# Altium schematic symbol library transistor_bjt.SchLib: 110 symbols
Pins are listed as number, name and electrical type; pins without a type are passive.

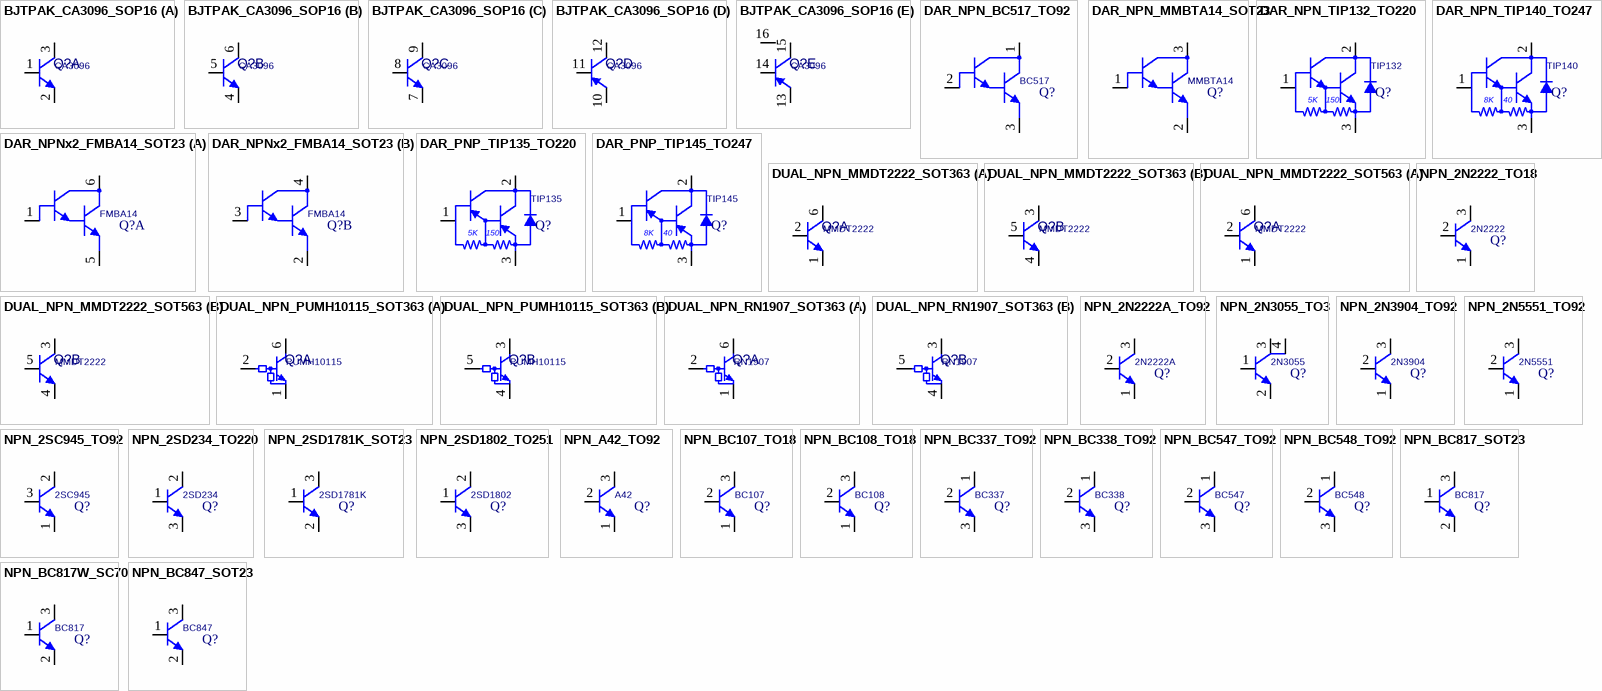
[diagram p0: symbols BJTPAK_CA3096_SOP16 to NPN_BC847_SOT23]

## BJTPAK_CA3096_SOP16
designator Q?, comment CA3096
BJT, NPNx3/PNPx2, 35v, 0.01~0.05A, SMD, SOP-16; MANF: Renesas / Intersil; PARAM: NPN50mA/PNP-10mA; DESC: DESCRIPTION; MANF_P#: CA3096AM, CA3096M; PARAM2: NPN35/PNP-40V; ASSEMBLY: ASSEMBLY; PRICE: PRICE; VALUE: CA3096
footprint SO_16 (SOP, SOIC, 3.9mm width, 1.27mm pitch,)
part A pins: 1 B1`, 2 E1, 3 C1
part B pins: 4 E2, 5 B2, 6 C2
part C pins: 7 E3, 8 B3, 9 C3
part D pins: 10 E4, 11 B4, 12 C4
part E pins: 13 E5, 14 B5, 15 C5, 16

## DAR_NPN_BC517_TO92
designator Q?, comment BC517
BJT, DARLINGTON, NPN, 30v, 1A, TO92,; PARAM: 30v, 1A, hFE30000, -55~150oC; PARAM2: 0.6W, max200MHz; MANF: ON/Fairchild; DESC: complementary to BC516; MANF_P#: BC517; PRICE: 0.5$; VALUE: BC517
footprint TO92_3 (TO-92)
pins: 1 C, 2 B, 3 E

## DAR_NPN_MMBTA14_SOT23
designator Q?, comment MMBTA14
BJT, DARLINGTON, NPN, 30v, 1.2A, SOT23; PARAM: 30v, 1.2A, hFE20000, -55~150oC; PARAM2: 0.6W, max125MHz; MANF: ON/Fairchild; DESC: complementary to BC516; MANF_P#: MMBTA14; PRICE: 0.3$; VALUE: MMBTA14
footprint SOT23_3 (SOT-23, Micro3, MO-178, TO-236AB, MO-193C, SuperSOT3, SC-59, 1.9mm pitch 3X1.5mm body)
pins: 1 B, 2 E, 3 C

## DAR_NPN_TIP132_TO220
designator Q?, comment TIP132
BJT, DARLINGTON, NPN, 100v, 8A, THD, TO-220, complementary the TIP135, TIP137; PARAM2: 70W; MANF: ST; PARAM: 100v, 8A; MANF_P#: TIP132; VALUE: TIP132
footprint TO220_3 (TO-220 3 LEAD, TO-262, pitch: 2.54mm  10x4.5mm)
simulation model NS3904
pins: 1 B, 2 C, 3 E
text: 5K; 150

## DAR_NPN_TIP140_TO247
designator Q?, comment TIP140
BJT, DARLINGTON, NPN, 100v, 10A, THD, TO-247, complementary the TIP145, TIP146, TIP147; PARAM: 60-100v, 10A, hfe1000; PARAM2: 125W; MANF_P#: TIP140, TIP141, TIP142; MANF: ON; VALUE: TIP140
footprint TO247_3 (TO247, TO-247, TO-3P pitch: 5.5mm 16x5mm)
simulation model NS3904
pins: 1 B, 2 C, 3 E
text: 8K; 40

## DAR_NPNx2_FMBA14_SOT23
designator Q?, comment FMBA14
BJT, DARLINGTON, NPN, DUAL, 30v, 1.2A, SOT-23-6; PARAM: 30v, 1.2A, hFE20000, -55~150oC; PARAM2: 0.7W, max125MHz; MANF: ON/Fairchild; DESC: complementary to BC516; MANF_P#: FMBA14; PRICE: 0.45$; VALUE: FMBA14
footprint SOT23_6 (SOT-23-6, MICRO6, SOT-26, SOT457, SuperSOT6, TSOP-6, HMC313, MO-178AB, MO-193AA, TSOT)
part A pins: 1 B1, 5 E1, 6 C1
part B pins: 2 E2, 3 B2, 4 C2

## DAR_PNP_TIP135_TO220
designator Q?, comment TIP135
BJT, DARLINGTON, PNP, 100v, 8A, THD, TO-220, complementary the TIP132; PARAM2: 70W; MANF_P#: TIP135, TIP137; MANF: ST; PARAM: 100v, 8A; VALUE: TIP135
footprint TO220_3 (TO-220 3 LEAD, TO-262, pitch: 2.54mm  10x4.5mm)
simulation model NS3904
pins: 1 B, 2 C, 3 E
text: 5K; 150

## DAR_PNP_TIP145_TO247
designator Q?, comment TIP145
BJT, DARLINGTON, PNP, 100v, 10A, THD, TO-247, complementary the TIP140, TIP141, TIP142; PARAM: 60-100v, 10A, hfe1000; PARAM2: 125W; MANF_P#: TIP145, TIP146, TIP147; MANF: ON; VALUE: TIP145
footprint TO247_3 (TO247, TO-247, TO-3P pitch: 5.5mm 16x5mm)
simulation model NS3904
pins: 1 B, 2 C, 3 E
text: 8K; 40

## DUAL_NPN_MMDT2222_SOT363
designator Q?, comment MMDT2222
BJT, DUAL, NPN, 40v, 0.2A, SMD, SOT363; MANF: Diodes; PARAM: 0.6A, hFE100~300; DESC: DESCRIPTION; MANF_P#: MMDT2222A-7; PARAM2: 40V,; ASSEMBLY: ASSEMBLY; PRICE: PRICE; VALUE: MMDT2222
footprint SOT363_6 (SOT-363, SC-70-6, DCK, BFS483, SC-88, MO-203AB, 2X1.2mm)
part A pins: 1 E, 2 B, 6 C
part B pins: 3 C, 4 E, 5 B

## DUAL_NPN_MMDT2222_SOT563
designator Q?, comment MMDT2222
BJT, DUAL, NPN, 40v, 0.2A, SMD, SOT563; MANF: Diodes; PARAM: 0.6A, hFE100~300; DESC: DESCRIPTION; MANF_P#: MMDT2222V-7; PARAM2: 40V,; ASSEMBLY: ASSEMBLY; PRICE: PRICE; VALUE: MMDT2222
footprint SOT563_6 (SOT-563, 6 LEAD, Body 1.2x1.6mm, Pitch 0.50mm, DSO50_6_160X120)
part A pins: 1 E, 2 B, 6 C
part B pins: 3 C, 4 E, 5 B

## DUAL_NPN_PUMH10115_SOT363
designator Q?, comment PUMH10115
BJT, DUAL, NPN, pre-biased, 50V, 0.1A, SOT363 SMD; MANF: NXP; PARAM: 50V; 0.1A, 300mW;; DESC: DESCRIPTION; PARAM2: Rb=2.2K, Re=47K; ASSEMBLY: ASSEMBLY; PRICE: PRICE; MANF_P#: PUMH10115; VALUE: PUMH10115
footprint SOT363_6 (SOT-363, SC-70_6, BFS483, SC-88, MO-203AB, DSO65_6_200X130)
part A pins: 1 E, 2 B, 6 C
part B pins: 3 C, 4 E, 5 B

## DUAL_NPN_RN1907_SOT363
designator Q?, comment RN1907
BJT, DUAL, NPN, pre-biased, 50V, 0.1A, SOT363 SMD; MANF: Toshiba; PARAM: 50V; 0.1A, 200mW;; DESC: DESCRIPTION; PARAM2: Rb=10K, Re=47K; ASSEMBLY: ASSEMBLY; PRICE: PRICE; MANF_P#: RN1907; VALUE: RN1907
footprint SOT363_6 (SOT-363, SC-70_6, BFS483, SC-88, MO-203AB, DSO65_6_200X130)
part A pins: 1 E, 2 B, 6 C
part B pins: 3 C, 4 E, 5 B

## NPN_2N2222_TO18
designator Q?, comment 2N2222
BJT, NPN, 30v, 0.8A, THD, TO-18; PARAM: 0.8A, hFE100~300; PARAM2: 30v, 500mW; MANF: ON; MANF_P#: 2N2222; VALUE: 2N2222
footprint TO18_3 (TO18, TO-206AA, TO52, TO46, DIA: 5.5mm)
simulation model NS3904
pins: 1 E, 2 B, 3 C

## NPN_2N2222A_TO92
designator Q?, comment 2N2222A
BJT, NPN, 40v, 0.6A, THD, TO92; PARAM: 0.6A, hFE100~300; PARAM2: 40v, 625mW; MANF: DIOTEC; MANF_P#: 2N2222A; VALUE: 2N2222A
footprint TO92_3 (TO-92)
simulation model NS3904
pins: 1 E, 2 B, 3 C

## NPN_2N3055_TO3
designator Q?, comment 2N3055
BJT, NPN, 60v, 15A, THD, TO-3; PARAM2: 115W; MANF: ON; PARAM: 60v, 15A; MANF_P#: 2N3055; VALUE: 2N3055
footprint TO3 (TO-3, TO3, TO-204A, 2N3055)
simulation model NS3904
pins: 1 B, 2 E, 3 C, 4 C

## NPN_2N3904_TO92
designator Q?, comment 2N3904
BJT, NPN, 40v, 0.6A, THD, TO92; PARAM: 40v, 0.2A; PARAM2: 625mW; MANF: ST; MANF_P#: 2N3904; VALUE: 2N3904
footprint TO92_3 (TO-92)
simulation model NS3904
pins: 1 E, 2 B, 3 C

## NPN_2N5551_TO92
designator Q?, comment 2N5551
BJT, NPN, 160v, 0.6A, THD, TO92; PARAM2: 625mW; MANF: ON; PARAM: 160v, 0.6A; MANF_P#: 2N5551; VALUE: 2N5551
footprint TO92_3 (TO-92)
simulation model NS3904
pins: 1 E, 2 B, 3 C

## NPN_2SC945_TO92
designator Q?, comment 2SC945
BJT, NPN, 50v, 0.15A, THD, TO92, BC945, Complimentary to 2SA733; PARAM2: 250mW; MANF_P#: 2SC945, BC945; PARAM: 50v, 0.15A; MANF: -; VALUE: 2SC945
footprint TO92_3 (TO-92)
simulation model NS3904
pins: 1 E, 2 C, 3 B

## NPN_2SD234_TO220
designator Q?, comment 2SD234
BJT, NPN, 60v, 3A, THD, TO-220; PARAM: 60v, 3A; PARAM2: 25W; MANF: ON; MANF_P#: 2SD234; VALUE: 2SD234
footprint TO220_3 (TO-220 3 LEAD, TO-262, pitch: 2.54mm  10x4.5mm)
simulation model NS3904
pins: 1 B, 2 C, 3 E

## NPN_2SD1781K_SOT23
designator Q?, comment 2SD1781K
BJT, NPN, 32v, 0.8A, SMD, SOT23, Complements the 2SB1197K; PARAM2: 200mW; MANF: ROHM; PARAM: 32v, 0.8A; MANF_P#: 2SD1781K; VALUE: 2SD1781K
footprint SOT23_3 (SOT-23, Micro3, MO-178, TO-236AB, MO-193C, SuperSOT3, SC-59, DSO190_3_300X150)
simulation model NS3904
pins: 1 B, 2 E, 3 C

## NPN_2SD1802_TO251
designator Q?, comment 2SD1802
BJT, NPN, 50v, 3A, THD, TO-251, Complements the 2SB1202; PARAM: 50v, 3A; MANF_P#: 2SD1802T; MANF: ON; PARAM2: -; VALUE: 2SD1802
footprint TO251_3 (TO-251 IPAK pitch: 2.3mm 6.5x6.5mm)
simulation model NS3904
pins: 1 B, 2 C, 3 E

## NPN_A42_TO92
designator Q?, comment A42
BJT, NPN, 300v, 0.5A, THD, TO92; PARAM2: 625mW; MANF: KOO CHIN; PARAM: 300v, 0.5A; MANF_P#: A42; VALUE: A42
footprint TO92_3 (TO-92)
simulation model NS3904
pins: 1 E, 2 B, 3 C

## NPN_BC107_TO18
designator Q?, comment BC107
BJT, NPN, 45v, 0.2A, THD, TO-18; PARAM2: 600mW; MANF: ON; PARAM: 45v, 0.2A; MANF_P#: BC107; VALUE: BC107
footprint TO18_3 (TO18, TO-206AA, TO52, TO46, DIA: 5.5mm)
simulation model NS3904
pins: 1 E, 2 B, 3 C

## NPN_BC108_TO18
designator Q?, comment BC108
BJT, NPN, 25v, 0.2A, THD, TO-18; PARAM2: 600mW; MANF: ON; PARAM: 25v, 0.2A; MANF_P#: BC108; VALUE: BC108
footprint TO18_3 (TO18, TO-206AA, TO52, TO46, DIA: 5.5mm)
simulation model NS3904
pins: 1 E, 2 B, 3 C

## NPN_BC337_TO92
designator Q?, comment BC337
BJT, NPN, 45v, 0.8A, THD, TO92; PARAM2: 625mW; MANF: FAIRCHILD; PARAM: 45v, 0.8A; MANF_P#: BC337; VALUE: BC337
footprint TO92_3 (TO-92)
simulation model NS3904
pins: 1 C, 2 B, 3 E

## NPN_BC338_TO92
designator Q?, comment BC338
BJT, NPN, 25v, 0.8A, THD, TO92; PARAM2: 625mW; MANF: FAIRCHILD; PARAM: 25v, 0.8A; MANF_P#: BC338; VALUE: BC338
footprint TO92_3 (TO-92)
simulation model NS3904
pins: 1 C, 2 B, 3 E

## NPN_BC547_TO92
designator Q?, comment BC547
BJT, NPN, 45v, 0.1A, THD, TO92; PARAM: 0.1A, Hfe110~800; PARAM2: 45v, 500mW; MANF: FAIRCHILD; MANF_P#: BC547; VALUE: BC547
footprint TO92_3 (TO-92)
simulation model NS3904
pins: 1 C, 2 B, 3 E

## NPN_BC548_TO92
designator Q?, comment BC548
BJT, NPN, 30v, 0.1A, THD, TO92; PARAM2: 500mW; MANF: FAIRCHILD; PARAM: 30v, 0.1A; MANF_P#: BC548; VALUE: BC548
footprint TO92_3 (TO-92)
simulation model NS3904
pins: 1 C, 2 B, 3 E

## NPN_BC817_SOT23
designator Q?, comment BC817
BJT, NPN, 45v, 0.5A, SMD, SOT23; PARAM: 0.5A, Hfe100~600; PARAM2: 45v, 250mW; MANF: NXP, ON; MANF_P#: BC817; VALUE: BC817
footprint SOT23_3 (SOT-23, Micro3, MO-178, TO-236AB, MO-193C, SuperSOT3, SC-59, DSO190_3_300X150)
simulation model NS3904
pins: 1 B, 2 E, 3 C

## NPN_BC817W_SC70
designator Q?, comment BC817
BJT, NPN, 45v, 0.5A, SMD, SC70; PARAM: 0.5A, Hfe100~600; PARAM2: 45v, 250mW; MANF_P#: BC817W, BC817-40W; MANF: NXP, ON; VALUE: BC817
footprint SOT323_3 (SOT323, SC-70/SC70-3L, MO-203(JEDEC))
simulation model NS3904
pins: 1 B, 2 E, 3 C

## NPN_BC847_SOT23
designator Q?, comment BC847
BJT, NPN, 45v, 0.1A, SOT23; PARAM: 0.1A, Hfe110~800; PARAM2: 45v, 500mW; MANF_P#: BC847BLT; MANF: NXP, ON; VALUE: BC847
footprint SOT23_3 (SOT-23, Micro3, MO-178, TO-236AB, MO-193C, SuperSOT3, SC-59, 1.9mm pitch 3X1.5mm body)
simulation model NS3904
pins: 1 B, 2 E, 3 C

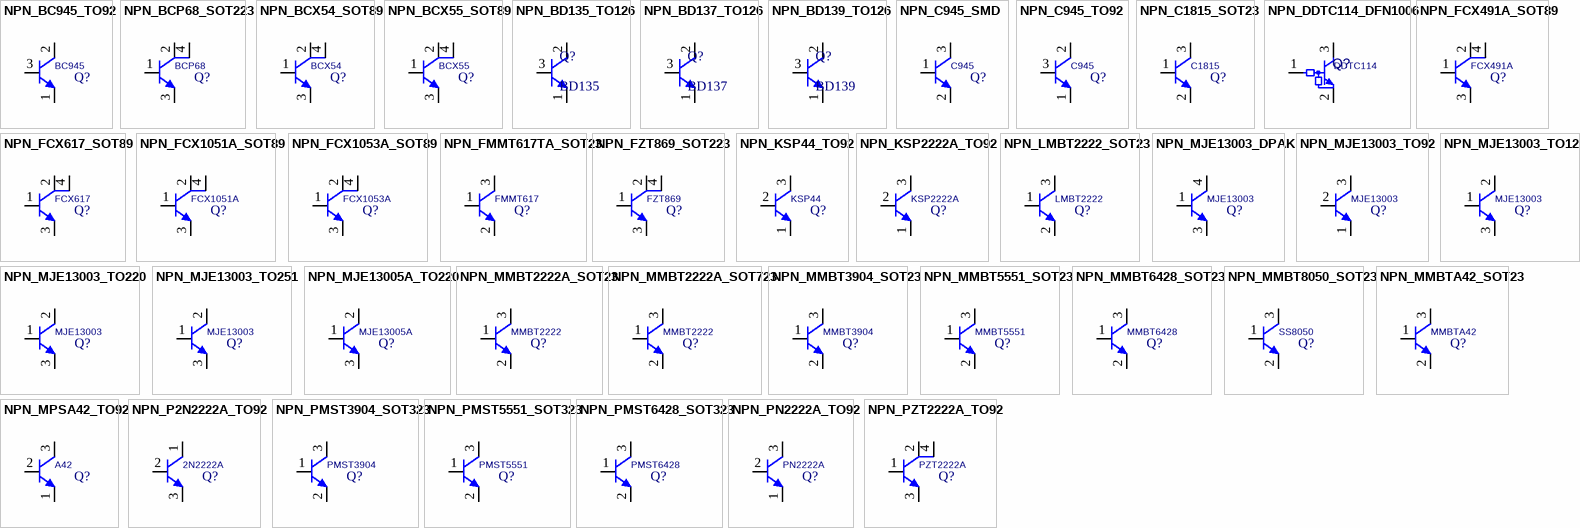
[diagram p1: symbols NPN_BC945_TO92 to NPN_PZT2222A_TO92]

## NPN_BC945_TO92
designator Q?, comment BC945
BJT, NPN, 50v, 0.15A, THD, TO92, BC945; PARAM2: 250mW; MANF_P#: 2SC945, BC945; PARAM: 50v, 0.15A; MANF: -; VALUE: BC945
footprint TO92_3 (TO-92)
simulation model NS3904
pins: 1 E, 2 C, 3 B

## NPN_BCP68_SOT223
designator Q?, comment BCP68
BJT, NPN, MED POWER, 20v, 1A, SMD, SOT223; PARAM: 20v, 1A; MANF: NXP, ON; PARAM2: -; MANF_P#: BCP68; VALUE: BCP68
footprint SOT223_4 (SOT223, 4-Leads, Body 6.5x3.5mm, Pitch 2.30mm)
simulation model NS3904
pins: 1 B, 2 C, 3 E, 4 C2

## NPN_BCX54_SOT89
designator Q?, comment BCX54
BJT, NPN, MED POWER, 45v, 1A, SMD, SOT89; PARAM: 45v, 1A; MANF: NXP, ON; PARAM2: -; MANF_P#: BCX54; VALUE: BCX54
footprint SOT89_3 (SOT89, SOT-89, SBF-4089, SOT89A, GALI, SC-62, DF782, TO-243AA(JEDEC))
simulation model NS3904
pins: 1 B, 2 C, 3 E, 4 C2

## NPN_BCX55_SOT89
designator Q?, comment BCX55
BJT, NPN, 60v, 1A, 1W, 150MHz, SOT-89; PARAM: 60v, 1A, 150MHz; PARAM2: 1W, -65~150oC; MANF_P#: BCX55-10, BCX5510TA; MANF: DIODES,; DESC: marking BG; PRICE: 0.5$; VALUE: BCX55
footprint SOT89_3 (SOT89, SOT-89, SBF-4089, SOT89A, GALI, SC-62, DF782, TO-243AA(JEDEC))
pins: 1 B, 2 C, 3 E, 4 C

## NPN_BD135_TO126
designator Q?, comment BD135
BJT, NPN, 45V, 1.5A; MANF: FAIRCHILD; VALUE: BD135; MANF_P#: BD135
footprint TO126_3 (TO126, TO-126, SOT32 (PHIPLIPS), pitch: 2.3mm, 8X3mm)
pins: 1 E, 2 C, 3 B

## NPN_BD137_TO126
designator Q?, comment BD137
BJT, NPN, 60V, 1.5A; MANF: FAIRCHILD; VALUE: BD137; MANF_P#: BD137
footprint TO126_3 (TO126, TO-126, SOT32 (PHIPLIPS), pitch: 2.3mm, 8X3mm)
pins: 1 E, 2 C, 3 B

## NPN_BD139_TO126
designator Q?, comment BD139
BJT, NPN, 80V, 1.5A; MANF: FAIRCHILD; VALUE: BD139; MANF_P#: BD139
footprint TO126_3 (TO126, TO-126, SOT32 (PHIPLIPS), pitch: 2.3mm, 8X3mm)
pins: 1 E, 2 C, 3 B

## NPN_C945_SMD
designator Q?, comment C945
BJT, NPN, 50v, 0.15A, THD, TO92, BC945; PARAM2: 200mW; MANF_P#: C945, 2SC945, BC945; PARAM: 50v, 0.15A; MANF: -; VALUE: C945
footprint SOT23_3 (SOT-23, Micro3, MO-178, TO-236AB, MO-193C, SuperSOT3, SC-59, DSO190_3_300X150)
simulation model NS3904
pins: 1 B, 2 E, 3 C

## NPN_C945_TO92
designator Q?, comment C945
BJT, NPN, 50v, 0.15A, THD, TO92, BC945; PARAM2: 250mW; MANF_P#: C945, 2SC945, BC945; PARAM: 50v, 0.15A; MANF: -; VALUE: C945
footprint TO92_3 (TO-92)
simulation model NS3904
pins: 1 E, 2 C, 3 B

## NPN_C1815_SOT23
designator Q?, comment C1815
BJT, NPN, 50v, 0.15A, SMD, SOT23; PARAM2: 250mW; PARAM: 50v, 0.15A; MANF_P#: C1815; MANF: -; VALUE: C1815
footprint SOT23_3 (SOT-23, Micro3, MO-178, TO-236AB, MO-193C, SuperSOT3, SC-59, DSO190_3_300X150)
simulation model NS3904
pins: 1 B, 2 E, 3 C

## NPN_DDTC114_DFN1006
designator Q?, comment DDTC114
BJT, NPN, pre-biased, 50V, 0.07A; MANF: Diodes; PARAM: 50V; 0.07A, 250mW;; DESC: DESCRIPTION; PARAM2: Rb=10K, Re=47K; MANF_P#: DDTC114YLP-7; ASSEMBLY: ASSEMBLY; PRICE: 0.4$; VALUE: DDTC114
footprint DSN1006_3 (X2-DSN1006-3, 1X0.6X0.35mm)
pins: 1 B, 2 E, 3 C

## NPN_FCX491A_SOT89
designator Q?, comment FCX491A
BJT, NPN, MED POWER, 40v, 1A, SMD, SOT89; PARAM: 40v, 1A; MANF: ZETEX; PARAM2: -; MANF_P#: FCX491A; VALUE: FCX491A
footprint SOT89_3 (SOT89, SOT-89, SBF-4089, SOT89A, GALI, SC-62, DF782, TO-243AA(JEDEC))
simulation model NS3904
pins: 1 B, 2 C, 3 E, 4 C2

## NPN_FCX617_SOT89
designator Q?, comment FCX617
BJT, NPN, MED POWER, 15v, 3A, SMD, SOT89; PARAM: 15v, 3A; MANF: ZETEX; PARAM2: -; MANF_P#: FCX617; VALUE: FCX617
footprint SOT89_3 (SOT89, SOT-89, SBF-4089, SOT89A, GALI, SC-62, DF782, TO-243AA(JEDEC))
simulation model NS3904
pins: 1 B, 2 C, 3 E, 4 C2

## NPN_FCX1051A_SOT89
designator Q?, comment FCX1051A
BJT, NPN, MED POWER, 40v, 3A, SMD, SOT89; PARAM: 40v, 3A; MANF: ZETEX; PARAM2: -; MANF_P#: FCX1051A; VALUE: FCX1051A
footprint SOT89_3 (SOT89, SOT-89, SBF-4089, SOT89A, GALI, SC-62, DF782, TO-243AA(JEDEC))
simulation model NS3904
pins: 1 B, 2 C, 3 E, 4 C2

## NPN_FCX1053A_SOT89
designator Q?, comment FCX1053A
BJT, NPN, MED POWER, 75v, 3A, SMD, SOT89; PARAM: 75v, 3A; MANF: ZETEX; PARAM2: -; MANF_P#: FCX1053A; VALUE: FCX1053A
footprint SOT89_3 (SOT89, SOT-89, SBF-4089, SOT89A, GALI, SC-62, DF782, TO-243AA(JEDEC))
simulation model NS3904
pins: 1 B, 2 C, 3 E, 4 C2

## NPN_FMMT617TA_SOT23
designator Q?, comment FMMT617
BJT, NPN, 15V, 3A, SMD, SOT23; PARAM: 15V, 3A; PARAM2: 625mW; MANF_P#: FMMT617TA; MANF: Diodes/Zetex; VALUE: FMMT617
footprint SOT23_3 (SOT-23, Micro3, MO-178, TO-236AB, MO-193C, SuperSOT3, SC-59, DSO190_3_300X150)
simulation model NS3904
pins: 1 B, 2 E, 3 C

## NPN_FZT869_SOT223
designator Q?, comment FZT869
BJT, NPN, MED POWER, 25V, 7A, SMD, SOT223; PARAM: 25V, 7A; PARAM2: 3WATT; MANF: Diodes; MANF_P#: FZT869; VALUE: FZT869
footprint SOT223_4 (SOT223, 4-Leads, Body 6.5x3.5mm, Pitch 2.30mm)
simulation model NS3904
pins: 1 B, 2 C, 3 E, 4 C2

## NPN_KSP44_TO92
designator Q?, comment KSP44
BJT, NPN, 400v, 0.3A, THD, TO92; PARAM2: 625mW; MANF: FAIRCHILD; PARAM: 400v, 0.3A; MANF_P#: KSP44; VALUE: KSP44
footprint TO92_3 (TO-92)
simulation model NS3904
pins: 1 E, 2 B, 3 C

## NPN_KSP2222A_TO92
designator Q?, comment KSP2222A
BJT, NPN, 40v, 0.6A, THD, TO92; PARAM: 0.6A, hFE100~300; PARAM2: 40v, 625mW; MANF: FAIRCHILD; MANF_P#: KSP2222A; VALUE: KSP2222A
footprint TO92_3 (TO-92)
simulation model NS3904
pins: 1 E, 2 B, 3 C

## NPN_LMBT2222_SOT23
designator Q?, comment LMBT2222
BJT, NPN, 40v, 0.6A, SMD, SOT23; PARAM: 0.6A, hFE100~300; PARAM2: 40v, 250mW; MANF_P#: LMBT2222LT1G, LMBT2222ALT1G; MANF: LRC; VALUE: LMBT2222
footprint SOT23_3 (SOT-23, Micro3, MO-178, TO-236AB, MO-193C, SuperSOT3, SC-59, DSO190_3_300X150)
simulation model NS3904
pins: 1 B, 2 E, 3 C

## NPN_MJE13003_DPAK
designator Q?, comment MJE13003
BJT, NPN, SWITCHMODE, 400v, 1.5A, SMD, TO-220; PARAM2: 1.4W; MANF: UTC; PARAM: 400v, 1.5A; MANF_P#: MJE13003; VALUE: MJE13003
footprint DPAK_3 (D-PAK (TO-252), 3-Pads, Body 6.2x6.7mm)
pins: 1 B, 3 E, 4 C

## NPN_MJE13003_TO92
designator Q?, comment MJE13003
BJT, NPN, SWITCHMODE, 400v, 0.5A, THD, TO92; PARAM2: 600mW; MANF: UTC; PARAM: 400v, 0.5A; MANF_P#: MJE13003; VALUE: MJE13003
footprint TO92_3 (TO-92)
pins: 1 E, 2 B, 3 C

## NPN_MJE13003_TO126
designator Q?, comment MJE13003
BJT, NPN, SWITCHMODE, 400v, 1.5A, THD, TO-126; PARAM2: 1.4W; MANF: ON, UTC; PARAM: 400v, 1.5A; MANF_P#: MJE13003; VALUE: MJE13003
footprint TO126_3 (TO126, TO-126, SOT32 (PHIPLIPS), pitch: 2.3mm, 8X3mm)
simulation model NS3904
pins: 1 B, 2 C, 3 E

## NPN_MJE13003_TO220
designator Q?, comment MJE13003
BJT, NPN, SWITCHMODE, 400v, 1.5A, THD, TO-220; PARAM2: 1.4W; MANF: UTC; PARAM: 400v, 1.5A; MANF_P#: MJE13003; VALUE: MJE13003
footprint TO220_3 (TO-220 3 LEAD, TO-262, pitch: 2.54mm  10x4.5mm)
simulation model NS3904
pins: 1 B, 2 C, 3 E

## NPN_MJE13003_TO251
designator Q?, comment MJE13003
BJT, NPN, SWITCHMODE, 400v, 1.5A, THD, TO-220; PARAM2: 1.4W; MANF: UTC; PARAM: 400v, 1.5A; MANF_P#: MJE13003; VALUE: MJE13003
footprint TO251_3 (TO-251 IPAK pitch: 2.3mm 6.5x6.5mm)
simulation model NS3904
pins: 1 B, 2 C, 3 E

## NPN_MJE13005A_TO220
designator Q?, comment MJE13005A
BJT, NPN, 400v, 4A, THD, TO-220; PARAM2: 75W; PARAM: 400v, 4A; MANF_P#: MJE13005A; MANF: -; VALUE: MJE13005A
footprint TO220_3 (TO-220 3 LEAD, TO-262, pitch: 2.54mm  10x4.5mm)
simulation model NS3904
pins: 1 B, 2 C, 3 E

## NPN_MMBT2222A_SOT23
designator Q?, comment MMBT2222
BJT, NPN, 40v, 0.6A, SMD, SOT23; PARAM: hFE100~300; PARAM2: 0.6A, 40v, 250mW; MANF_P#: MMBT2222A; MANF: Diodes, NXP, FAIRCHILD, ON; VALUE: MMBT2222
footprint SOT23_3 (SOT-23, Micro3, MO-178, TO-236AB, MO-193C, SuperSOT3, SC-59, DSO190_3_300X150)
simulation model NS3904
pins: 1 B, 2 E, 3 C

## NPN_MMBT2222A_SOT723
designator Q?, comment MMBT2222
BJT, NPN, 40v, 0.6A, SMD, SOT723; PARAM: hFE100~300; PARAM2: 0.6A, 40v, 250mW; MANF_P#: MMBT2222AM3T5G; MANF: ON; VALUE: MMBT2222
footprint SOT723_3 (VMT3, SC-105AA, SOT-723, 3 LEAD, Body 1.2x0.8mm, Pitch 0.8mm)
simulation model NS3904
pins: 1 B, 2 E, 3 C

## NPN_MMBT3904_SOT23
designator Q?, comment MMBT3904
BJT, NPN, 40v, 0.2A, SMD, SOT23; PARAM2: 250mW; MANF: Diodes, NXP, FAIRCHILD, ON; PARAM: 40v, 0.2A; MANF_P#: MMBT3904; VALUE: MMBT3904
footprint SOT23_3 (SOT-23, Micro3, MO-178, TO-236AB, MO-193C, SuperSOT3, SC-59, DSO190_3_300X150)
simulation model NS3904
pins: 1 B, 2 E, 3 C

## NPN_MMBT5551_SOT23
designator Q?, comment MMBT5551
BJT, NPN, 160v, 0.6A, SMD, SOT-23; PARAM2: 625mW; MANF: ON/DIODE; PARAM: 160v, 0.6A; MANF_P#: MMBT5551; VALUE: MMBT5551
footprint SOT23_3 (SOT-23, Micro3, MO-178, TO-236AB, MO-193C, SuperSOT3, SC-59, 1.9mm pitch 3X1.5mm body)
simulation model NS3904
pins: 1 B, 2 E, 3 C

## NPN_MMBT6428_SOT23
designator Q?, comment MMBT6428
BJT, NPN, 50v, 0.2A, SMD, SOT23; PARAM: 50v, 0.2A, 700MHz; PARAM2: 250mW, -55~150oC; MANF_P#: MMBT6428LT; MANF: ON; PRICE: 0.2$; VALUE: MMBT6428
footprint SOT23_3 (SOT-23, Micro3, MO-178, TO-236AB, MO-193C, SuperSOT3, SC-59, DSO190_3_300X150)
simulation model NS3904
pins: 1 B, 2 E, 3 C

## NPN_MMBT8050_SOT23
designator Q?, comment SS8050
BJT, NPN, 25v, 1.5A, SMD, SOT23; PARAM2: 300mW; MANF_P#: MMBT8050; MANF: GALAXY; PARAM: 25v, 1.5A; PRICE: 0.09t@JAVAN; VALUE: SS8050
footprint SOT23_3 (SOT-23, Micro3, MO-178, TO-236AB, MO-193C, SuperSOT3, SC-59, DSO190_3_300X150)
simulation model NS3904
pins: 1 B, 2 E, 3 C

## NPN_MMBTA42_SOT23
designator Q?, comment MMBTA42
BJT, NPN, 300v, 0.5A, SMD, SOT23; PARAM2: 625mW; MANF: ON/FAIRCHILD; PARAM: 300v, 0.5A; MANF_P#: MMBTA42; VALUE: MMBTA42
footprint SOT23_3 (SOT-23, Micro3, MO-178, TO-236AB, MO-193C, SuperSOT3, SC-59, 1.9mm pitch 3X1.5mm body)
simulation model NS3904
pins: 1 B, 2 E, 3 C

## NPN_MPSA42_TO92
designator Q?, comment A42
BJT, NPN, 300v, 0.5A, THD, TO92; PARAM: 300v, 0.5A, -55~150°C; PARAM2: 625mW; MANF_P#: MPSA42; MANF: ON/FAIRCHILD; VALUE: A42
footprint TO92_3 (TO-92)
simulation model NS3904
pins: 1 E, 2 B, 3 C

## NPN_P2N2222A_TO92
designator Q?, comment 2N2222A
BJT, NPN, 40v, 0.6A, THD, TO92; PARAM: 0.6A, hFE100~300; PARAM2: 40v, 625mW; MANF_P#: P2N2222A; MANF: ON; VALUE: 2N2222A
footprint TO92_3 (TO-92)
simulation model NS3904
pins: 1 C, 2 B, 3 E

## NPN_PMST3904_SOT323
designator Q?, comment PMST3904
BJT, NPN, 40v, 0.2A, SMD, SOT323; PARAM2: 250mW; MANF: NXP; PARAM: 40v, 0.2A; MANF_P#: PMST3904; VALUE: PMST3904
footprint SOT323_3 (SOT323, SC-70/SC70-3L, DCK, MO-203, 2X1.25mm)
simulation model NS3904
pins: 1 B, 2 E, 3 C

## NPN_PMST5551_SOT323
designator Q?, comment PMST5551
BJT, NPN, 160v, 0.6A, SMD, SOT-323; PARAM2: 625mW; MANF: ON; PARAM: 160v, 0.6A; MANF_P#: PMST5551; VALUE: PMST5551
footprint SOT323_3 (SOT323, SC-70/SC70-3L, DCK, MO-203, 2X1.25mm)
simulation model NS3904
pins: 1 B, 2 E, 3 C

## NPN_PMST6428_SOT323
designator Q?, comment PMST6428
BJT, NPN, 60v, 0.1A, SMD, SOT23; PARAM: 60v, 0.1A, 700MHz; PARAM2: 250mW, -65~150oC; MANF_P#: PMST6428,115; MANF: NXP; PRICE: 0.2$; VALUE: PMST6428
footprint SOT323_3 (SOT323, SC-70/SC70-3L, DCK, MO-203, 2X1.25mm)
simulation model NS3904
pins: 1 B, 2 E, 3 C

## NPN_PN2222A_TO92
designator Q?, comment PN2222A
BJT, NPN, 40v, 0.6A, THD, TO92; PARAM: 0.6A, hFE100~300; PARAM2: 40v, 625mW; MANF: DIOTEC; MANF_P#: PN2222A; VALUE: PN2222A
footprint TO92_3 (TO-92)
simulation model NS3904
pins: 1 E, 2 B, 3 C

## NPN_PZT2222A_TO92
designator Q?, comment PZT2222A
BJT, NPN, switching, 40v, 0.6A, SMD, SOT223, complement: PZT2907A; PARAM: 0.6A, hFE100~300; PARAM2: 40v, 1.15W; MANF: NXP, ON; MANF_P#: PZT2222A; VALUE: PZT2222A
footprint SOT223_4 (SOT223, 4-Leads, Body 6.5x3.5mm, Pitch 2.30mm)
simulation model NS3904
pins: 1 B, 2 C, 3 E, 4 C2

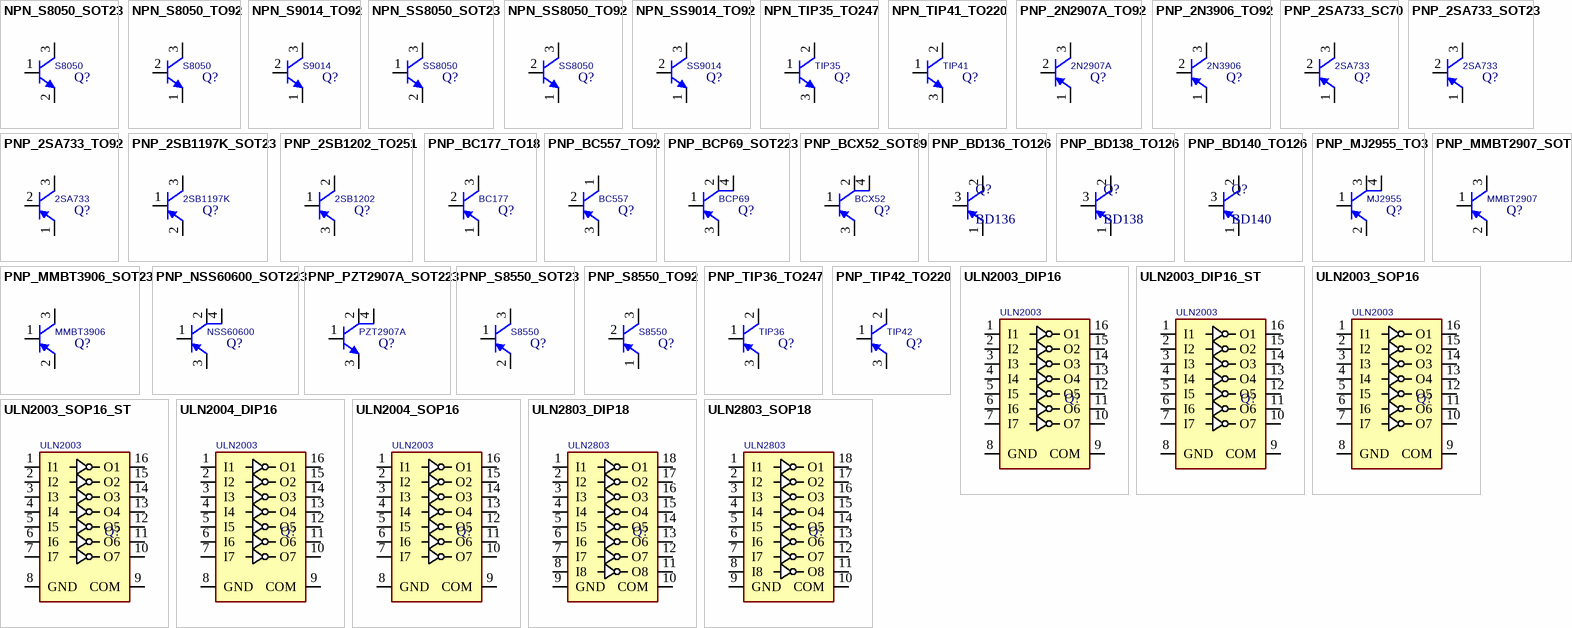
[diagram p2: symbols NPN_S8050_SOT23 to ULN2803_SOP18]

## NPN_S8050_SOT23
designator Q?, comment S8050
BJT, NPN, 25v, 0.5A, SMD, SOT23; PARAM2: 300mW; PARAM: 25v, 0.5A; MANF_P#: S8050; MANF: -; VALUE: S8050
footprint SOT23_3 (SOT-23, Micro3, MO-178, TO-236AB, MO-193C, SuperSOT3, SC-59, DSO190_3_300X150)
simulation model NS3904
pins: 1 B, 2 E, 3 C

## NPN_S8050_TO92
designator Q?, comment S8050
BJT, NPN, 20v, 0.7A, THD, TO92; PARAM2: 625mW; MANF: UTC; PARAM: 20v, 0.7A; MANF_P#: S8050; VALUE: S8050
footprint TO92_3 (TO-92)
simulation model NS3904
pins: 1 E, 2 B, 3 C

## NPN_S9014_TO92
designator Q?, comment S9014
BJT, NPN, 45v, 0.1A, THD, TO92; PARAM2: 450mW; PARAM: 45v, 0.1A; MANF_P#: S9014; MANF: -; VALUE: S9014
footprint TO92_3 (TO-92)
simulation model NS3904
pins: 1 E, 2 B, 3 C

## NPN_SS8050_SOT23
designator Q?, comment SS8050
BJT, NPN, 25v, 1.5A, SMD, SOT23; PARAM2: 300mW; MANF: GALAXY; PARAM: 25v, 1.5A; MANF_P#: SS8050; VALUE: SS8050
footprint SOT23_3 (SOT-23, Micro3, MO-178, TO-236AB, MO-193C, SuperSOT3, SC-59, DSO190_3_300X150)
simulation model NS3904
pins: 1 B, 2 E, 3 C

## NPN_SS8050_TO92
designator Q?, comment SS8050
BJT, NPN, 25v, 1.5A, THD, TO92; PARAM2: 625mW; MANF: FAIRCHILD; PARAM: 25v, 1.5A; MANF_P#: SS8050; VALUE: SS8050
footprint TO92_3 (TO-92)
simulation model NS3904
pins: 1 E, 2 B, 3 C

## NPN_SS9014_TO92
designator Q?, comment SS9014
BJT, NPN, 45v, 0.1A, THD, TO92; PARAM2: 450mW; MANF: FAIRCHILD; PARAM: 45v, 0.1A; MANF_P#: SS9014; VALUE: SS9014
footprint TO92_3 (TO-92)
simulation model NS3904
pins: 1 E, 2 B, 3 C

## NPN_TIP35_TO247
designator Q?, comment TIP35
BJT, NPN, 60v, 25A, THD, TO-247 TO-218; PARAM: 60-100v, 25A; PARAM2: 125W; MANF_P#: TIP35A, TIP35B, TIP35C; MANF: ON; VALUE: TIP35
footprint TO247_3 (TO247, TO-247, TO-3P pitch: 5.5mm 16x5mm)
simulation model NS3904
pins: 1 B, 2 C, 3 E

## NPN_TIP41_TO220
designator Q?, comment TIP41
BJT, NPN, 60v, 6A, THD, TO-220; PARAM: 60-100v, 6A; PARAM2: 65W; MANF_P#: TIP41A, TIP41B, TIP41C; MANF: ON; VALUE: TIP41
footprint TO220_3 (TO-220 3 LEAD, TO-262, pitch: 2.54mm  10x4.5mm)
simulation model NS3904
pins: 1 B, 2 C, 3 E

## PNP_2N2907A_TO92
designator Q?, comment 2N2907A
BJT, PNP, 40v, 0.6A, THD, TO92, Complement the 2N2222; PARAM2: 625mW; MANF: DIOTEC; PARAM: 40v, 0.6A; MANF_P#: 2N2907A; VALUE: 2N2907A
footprint TO92_3 (TO-92)
simulation model NS3904
pins: 1 E, 2 B, 3 C

## PNP_2N3906_TO92
designator Q?, comment 2N3906
BJT, PNP, 40v, 0.6A, THD, TO92; PARAM: 40v, 0.2A; PARAM2: 625mW; MANF: ST; MANF_P#: 2N3906; VALUE: 2N3906
footprint TO92_3 (TO-92)
simulation model NS3904
pins: 1 E, 2 B, 3 C

## PNP_2SA733_SC70
designator Q?, comment 2SA733
BJT, PNP, 50v, 0.15A, SMD, SC70; PARAM2: 200mW; MANF: UTC; PARAM: 50v, 0.15A; MANF_P#: 2SA733; VALUE: 2SA733
footprint SOT323_3 (SOT323, SC-70/SC70-3L, MO-203(JEDEC))
simulation model NS3904
pins: 1 E, 2 B, 3 C

## PNP_2SA733_SOT23
designator Q?, comment 2SA733
BJT, PNP, 50v, 0.15A, SMD, SOT23; PARAM2: 300mW; MANF: UTC; PARAM: 50v, 0.15A; MANF_P#: 2SA733; VALUE: 2SA733
footprint SOT23_3 (SOT-23, Micro3, MO-178, TO-236AB, MO-193C, SuperSOT3, SC-59, DSO190_3_300X150)
simulation model NS3904
pins: 1 E, 2 B, 3 C

## PNP_2SA733_TO92
designator Q?, comment 2SA733
BJT, PNP, 50v, 0.15A, THD, TO92; PARAM2: 625mW; MANF: UTC; PARAM: 50v, 0.15A; MANF_P#: 2SA733; VALUE: 2SA733
footprint TO92_3 (TO-92)
simulation model NS3904
pins: 1 E, 2 B, 3 C

## PNP_2SB1197K_SOT23
designator Q?, comment 2SB1197K
BJT, PNP, 32v, 0.8A, SMD, SOT23, Complements the 2SD1781K; PARAM2: 200mW; MANF: ROHM; PARAM: 32v, 0.8A; MANF_P#: 2SB1197K; VALUE: 2SB1197K
footprint SOT23_3 (SOT-23, Micro3, MO-178, TO-236AB, MO-193C, SuperSOT3, SC-59, DSO190_3_300X150)
simulation model NS3904
pins: 1 B, 2 E, 3 C

## PNP_2SB1202_TO251
designator Q?, comment 2SB1202
BJT, PNP, 50v, 3A, THD, TO-251, Complements the 2SD1802; PARAM: 50v, 3A; MANF_P#: 2SB1202T, 2SB1202T-TL-E; MANF: ON; PARAM2: -; VALUE: 2SB1202
footprint TO251_3 (TO-251 IPAK pitch: 2.3mm 6.5x6.5mm)
simulation model NS3904
pins: 1 B, 2 C, 3 E

## PNP_BC177_TO18
designator Q?, comment BC177
BJT, PNP, 45v, 0.2A, THD, TO-18; PARAM2: 600mW; MANF: ON; PARAM: 45v, 0.2A; MANF_P#: BC177; VALUE: BC177
footprint TO18_3 (TO18, TO-206AA, TO52, TO46, DIA: 5.5mm)
simulation model NS3904
pins: 1 E, 2 B, 3 C

## PNP_BC557_TO92
designator Q?, comment BC557
BJT, PNP, 45v, 0.1A, THD, TO92; PARAM2: 500mW; MANF: MULTICOMP; PARAM: 45v, 0.1A; MANF_P#: BC557; VALUE: BC557
footprint TO92_3 (TO-92)
simulation model NS3904
pins: 1 C, 2 B, 3 E

## PNP_BCP69_SOT223
designator Q?, comment BCP69
BJT, PNP, MED POWER, 20v, 1A, SMD, SOT223; PARAM: 20v, 1A; MANF: NXP, ON; PARAM2: -; MANF_P#: BCP69; VALUE: BCP69
footprint SOT223_4 (SOT223, 4-Leads, Body 6.5x3.5mm, Pitch 2.30mm)
simulation model NS3904
pins: 1 B, 2 C, 3 E, 4 C2

## PNP_BCX52_SOT89
designator Q?, comment BCX52
BJT, PNP, 60v, 1A, 1W, 150MHz, SOT-89; PARAM: 60v, 1A, 150MHz; PARAM2: 1W, -65~150oC; MANF_P#: BCX55-10, BCX52TA; MANF: DIODES,; DESC: marking AG; PRICE: 0.5$; VALUE: BCX52
footprint SOT89_3 (SOT89, SOT-89, SBF-4089, SOT89A, GALI, SC-62, DF782, TO-243AA(JEDEC))
pins: 1 B, 2 C, 3 E, 4 C

## PNP_BD136_TO126
designator Q?, comment BD136
BJT, PNP, -45V, -1.5A; MANF: FAIRCHILD; VALUE: BD136; MANF_P#: BD136; PARAM2: -45V; PARAM: -1.5A
footprint TO126_3 (TO126, TO-126, SOT32 (PHIPLIPS), pitch: 2.3mm, 8X3mm)
pins: 1 E, 2 C, 3 B

## PNP_BD138_TO126
designator Q?, comment BD138
BJT, PNP, -60V, -1.5A; MANF: FAIRCHILD; VALUE: BD138; MANF_P#: BD138; PARAM2: -60V; PARAM: -1.5A
footprint TO126_3 (TO126, TO-126, SOT32 (PHIPLIPS), pitch: 2.3mm, 8X3mm)
pins: 1 E, 2 C, 3 B

## PNP_BD140_TO126
designator Q?, comment BD140
BJT, PNP, -80V, -1.5A; MANF: FAIRCHILD; VALUE: BD140; MANF_P#: BD140; PARAM2: -80V; PARAM: -1.5A
footprint TO126_3 (TO126, TO-126, SOT32 (PHIPLIPS), pitch: 2.3mm, 8X3mm)
pins: 1 E, 2 C, 3 B

## PNP_MJ2955_TO3
designator Q?, comment MJ2955
BJT, PNP, 60v, 15A, THD, TO-3; PARAM2: 115W; MANF: ON; PARAM: 60v, 15A; MANF_P#: MJ2955; VALUE: MJ2955
footprint TO3 (TO-3, TO3, TO-204A, 2N3055)
simulation model NS3904
pins: 1 B, 2 E, 3 C, 4 C

## PNP_MMBT2907_SOT23
designator Q?, comment MMBT2907
BJT, PNP, 40v, 0.6A, SMD, SOT23; PARAM2: 250mW; MANF: Diodes, NXP, FAIRCHILD, ON; PARAM: 40v, 0.6A; MANF_P#: MMBT2907; VALUE: MMBT2907
footprint SOT23_3 (SOT-23, Micro3, MO-178, TO-236AB, MO-193C, SuperSOT3, SC-59, DSO190_3_300X150)
pins: 1 B, 2 E, 3 C

## PNP_MMBT3906_SOT23
designator Q?, comment MMBT3906
BJT, PNP, 40v, 0.2A, SMD, SOT23; PARAM2: 250mW; MANF: Diodes, NXP, FAIRCHILD, ON; PARAM: 40v, 0.2A; MANF_P#: MMBT3906; VALUE: MMBT3906
footprint SOT23_3 (SOT-23, Micro3, MO-178, TO-236AB, MO-193C, SuperSOT3, SC-59, DSO190_3_300X150)
simulation model NS3904
pins: 1 B, 2 E, 3 C

## PNP_NSS60600_SOT223
designator Q?, comment NSS60600
BJT, PNP, MED POWER, 60v, 6A, SMD, SOT223; PARAM: 60v, 6A; PARAM2: 800mW; MANF_P#: NSS60600MZ4T1G; MANF: NXP, ON; VALUE: NSS60600
footprint SOT223_4 (SOT223, 4-Leads, Body 6.5x3.5mm, Pitch 2.30mm)
simulation model NS3904
pins: 1 B, 2 C, 3 E, 4 C2

## PNP_PZT2907A_SOT223
designator Q?, comment PZT2907A
BJT, PNP, switching, 40v, 0.6A, SMD, SOT223, complement: PZT2222A; PARAM2: 1.15W; MANF: NXP, ON; PARAM: 40v, 0.6A; MANF_P#: PZT2907A; VALUE: PZT2907A
footprint SOT223_4 (SOT223, 4-Leads, Body 6.5x3.5mm, Pitch 2.30mm)
pins: 1 B, 2 C, 3 E, 4 C2

## PNP_S8550_SOT23
designator Q?, comment S8550
BJT, PNP, 25v, 0.5A, SMD, SOT23; PARAM2: 300mW; PARAM: 25v, 0.5A; MANF_P#: S8550; MANF: -; VALUE: S8550
footprint SOT23_3 (SOT-23, Micro3, MO-178, TO-236AB, MO-193C, SuperSOT3, SC-59, DSO190_3_300X150)
simulation model NS3904
pins: 1 B, 2 E, 3 C

## PNP_S8550_TO92
designator Q?, comment S8550
BJT, PNP, 20v, 0.7A, THD, TO92; PARAM2: 625mW; MANF: UTC; PARAM: 20v, 0.7A; MANF_P#: S8550; VALUE: S8550
footprint TO92_3 (TO-92)
simulation model NS3904
pins: 1 E, 2 B, 3 C

## PNP_TIP36_TO247
designator Q?, comment TIP36
BJT, PNP, 60v, 25A, THD, TO-247 TO-218; PARAM: 60-100v, 25A; PARAM2: 125W; MANF_P#: TIP36A, TIP36B, TIP36C; MANF: ON; VALUE: TIP36
footprint TO247_3 (TO247, TO-247, TO-3P pitch: 5.5mm 16x5mm)
simulation model NS3904
pins: 1 B, 2 C, 3 E

## PNP_TIP42_TO220
designator Q?, comment TIP42
BJT, PNP, 60v, 6A, THD, TO-220; PARAM: 60-100v, 6A; PARAM2: 65W; MANF_P#: TIP42A, TIP42B, TIP42C; MANF: ON; VALUE: TIP42
footprint TO220_3 (TO-220 3 LEAD, TO-262, pitch: 2.54mm  10x4.5mm)
simulation model NS3904
pins: 1 B, 2 C, 3 E

## ULN2003_DIP16
designator Q?, comment ULN2003
Darlington, 7-CH, 50V, 0.5A; MANF_P#: ULN2003A; MANF: DIODES; PARAM: 7-CH, 50V, 0.5A; PARAM2: -; VALUE: ULN2003
footprint DIP_16 (DIP, pitch 2.54mm, 300mil Width)
pins: 1 I1, 2 I2, 3 I3, 4 I4, 5 I5, 6 I6, 7 I7, 8 GND, 9 COM, 10 O7, 11 O6, 12 O5, 13 O4, 14 O3, 15 O2, 16 O1

## ULN2003_DIP16_ST
designator Q?, comment ULN2003
Darlington, 7-CH, 50V, 0.5A, 5V TTL/CMOS; MANF_P#: ULN2003A; MANF: ST; PARAM: 7-CH, 50V, 0.5A; PARAM2: 5V TTL/CMOS; VALUE: ULN2003
footprint DIP_16 (DIP, pitch 2.54mm, 300mil Width)
pins: 1 I1, 2 I2, 3 I3, 4 I4, 5 I5, 6 I6, 7 I7, 8 GND, 9 COM, 10 O7, 11 O6, 12 O5, 13 O4, 14 O3, 15 O2, 16 O1

## ULN2003_SOP16
designator Q?, comment ULN2003
Darlington, 7-CH, 50V, 0.5A; MANF_P#: ULN2003A; MANF: DIODES; PARAM: 7-CH, 50V, 0.5A; PARAM2: -; VALUE: ULN2003
footprint SO_16_W
pins: 1 I1, 2 I2, 3 I3, 4 I4, 5 I5, 6 I6, 7 I7, 8 GND, 9 COM, 10 O7, 11 O6, 12 O5, 13 O4, 14 O3, 15 O2, 16 O1

## ULN2003_SOP16_ST
designator Q?, comment ULN2003
Darlington, 7-CH, 50V, 0.5A, 5V TTL/CMOS; MANF_P#: ULN2003D1; MANF: ST; PARAM: 7-CH, 50V, 0.5A; PARAM2: 5V TTL/CMOS; VALUE: ULN2003
footprint SO_16 (SOP, SOIC, 3.9mm width, 1.27mm pitch,)
pins: 1 I1, 2 I2, 3 I3, 4 I4, 5 I5, 6 I6, 7 I7, 8 GND, 9 COM, 10 O7, 11 O6, 12 O5, 13 O4, 14 O3, 15 O2, 16 O1

## ULN2004_DIP16
designator Q?, comment ULN2003
Darlington, 7-CH, 50V, 0.5A, 6~15V CMOS/PMOS; MANF_P#: ULN2004A; MANF: ST; PARAM: 7-CH, 50V, 0.5A; PARAM2: 6~15V CMOS/PMOS; VALUE: ULN2003
footprint DIP_16 (DIP, pitch 2.54mm, 300mil Width)
pins: 1 I1, 2 I2, 3 I3, 4 I4, 5 I5, 6 I6, 7 I7, 8 GND, 9 COM, 10 O7, 11 O6, 12 O5, 13 O4, 14 O3, 15 O2, 16 O1

## ULN2004_SOP16
designator Q?, comment ULN2003
Darlington, 7-CH, 50V, 0.5A, 6~15V CMOS/PMOS; MANF_P#: ULN2004D1; MANF: ST; PARAM: 7-CH, 50V, 0.5A; PARAM2: 6~15V CMOS/PMOS; VALUE: ULN2003
footprint SO_16_W
pins: 1 I1, 2 I2, 3 I3, 4 I4, 5 I5, 6 I6, 7 I7, 8 GND, 9 COM, 10 O7, 11 O6, 12 O5, 13 O4, 14 O3, 15 O2, 16 O1

## ULN2803_DIP18
designator Q?, comment ULN2803
Darlington, 8-CH, 50V, 0.5A; PARAM: 7-CH, 50V, 0.5A; MANF: DIODES; PARAM2: -; MANF_P#: ULN2803; VALUE: ULN2803
footprint DIP_18 (DIP, pitch 2.54mm, 300mil Width)
pins: 1 I1, 2 I2, 3 I3, 4 I4, 5 I5, 6 I6, 7 I7, 8 I8, 9 GND, 10 COM, 11 O8, 12 O7, 13 O6, 14 O5, 15 O4, 16 O3, 17 O2, 18 O1

## ULN2803_SOP18
designator Q?, comment ULN2803
Darlington, 8-CH, 50V, 0.5A; PARAM: 7-CH, 50V, 0.5A; MANF: DIODES; PARAM2: -; MANF_P#: ULN2803; VALUE: ULN2803
footprint SO_18_W
pins: 1 I1, 2 I2, 3 I3, 4 I4, 5 I5, 6 I6, 7 I7, 8 I8, 9 GND, 10 COM, 11 O8, 12 O7, 13 O6, 14 O5, 15 O4, 16 O3, 17 O2, 18 O1